# EAGLE library part 32U4CASTEL (library castels)
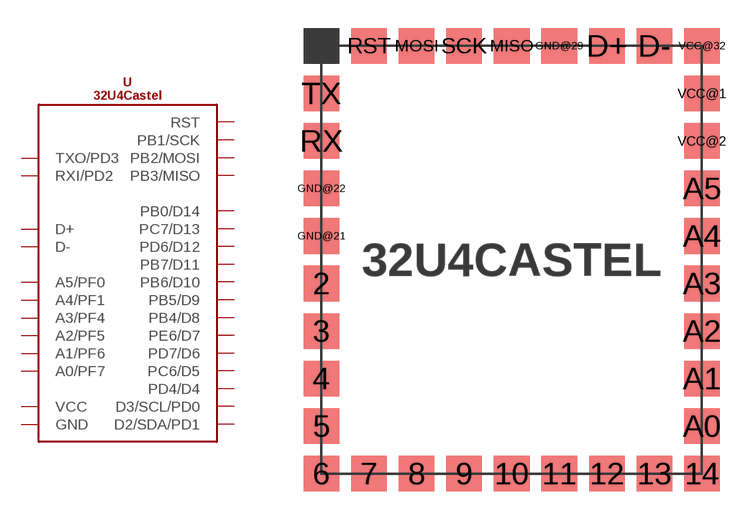
[diagram p0: symbol with the pads of 32U4CASTEL; footprint 32U4CASTEL]

Designator prefix -

## 32U4CASTEL  [32U4CASTEL]
2  D2/SDA/PD1
3  D3/SCL/PD0
4  PD4/D4
5  PC6/D5
6  PD7/D6
7  PE6/D7
8  PB4/D8
9  PB5/D9
10  PB6/D10
11  PB7/D11
12  PD6/D12
13  PC7/D13
14  PB0/D14
A0  A0/PF7
A1  A1/PF6
A2  A2/PF5
A3  A3/PF4
A4  A4/PF1
A5  A5/PF0
D+  D+
D-  D-
GND@21  GND
GND@22  GND
GND@29  GND
MISO  PB3/MISO
MOSI  PB2/MOSI
RST  RST
RX  RXI/PD2
SCK  PB1/SCK
TX  TXO/PD3
VCC@1  VCC
VCC@2  VCC
VCC@32  VCC

## Footprint 32U4CASTEL (pad centres in mm)
smd 1.905 x 1.905: 2 -11.43,-1.27; 3 -11.43,-3.81; 4 -11.43,-6.35; 5 -11.43,-8.89; 6 -11.43,-11.43; 7 -8.89,-11.43; 8 -6.35,-11.43; 9 -3.81,-11.43; 10 -1.27,-11.43; 11 1.27,-11.43; 12 3.81,-11.43; 13 6.35,-11.43; 14 8.89,-11.43; A0 8.89,-8.89; A1 8.89,-6.35; A2 8.89,-3.81; A3 8.89,-1.27; A4 8.89,1.27; A5 8.89,3.81; D+ 3.81,11.43; D- 6.35,11.43; GND@21 -11.43,1.27; GND@22 -11.43,3.81; GND@29 1.27,11.43; MISO -1.27,11.43; MOSI -6.35,11.43; RST -8.89,11.43; RX -11.43,6.35; SCK -3.81,11.43; TX -11.43,8.89; VCC@1 8.89,8.89; VCC@2 8.89,6.35; VCC@32 8.89,11.43